# EAGLE library part ESP32_DEVKIT_V1 (library UNIT_Biblioteca_Modulos)
ESP32 Devkit V1 Datasheet: SKU: Propietario: UNIT Electronics Desarrollador: Alberto Villanueva
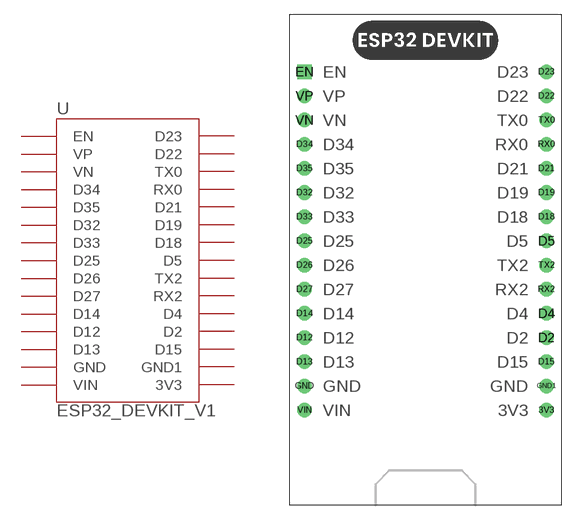
[diagram p33: symbol with the pads of DEVKIT_V1; footprint DEVKIT_V1]

Designator prefix U

## ESP32_DEVKIT_V1 (CLASS: Modules; DESCRIPTION: ESP32 DEVKIT V1; MANUFACTURER_NAME: ESP32 DEVKIT V1; VENDOR_PART_NUMBER: AR0453; VENDOR_PRICE-STOCK: https://uelectronics.com/producto/esp32-devkit-v1-30-pines-usb-c-microusb/)  [DEVKIT_V1]
3V3  3V3
D2  D2
D4  D4
D5  D5
D12  D12
D13  D13
D14  D14
D15  D15
D18  D18
D19  D19
D21  D21
D22  D22
D23  D23
D25  D25
D26  D26
D27  D27
D32  D32
D33  D33
D34  D34
D35  D35
EN  EN
GND  GND
GND1  GND1
RX0  RX0
RX2  RX2
TX0  TX0
TX2  TX2
VIN  VIN
VN  VN
VP  VP

## Footprint DEVKIT_V1 (pad centres in mm)
drill 1.02: 3V3 12.7,-17.78; D2 12.7,-10.16; D4 12.7,-7.62; D5 12.7,0; D12 -12.7,-10.16; D13 -12.7,-12.7; D14 -12.7,-7.62; D15 12.7,-12.7; D18 12.7,2.54; D19 12.7,5.08; D21 12.7,7.62; D22 12.7,15.24; D23 12.7,17.78; D25 -12.7,0; D26 -12.7,-2.54; D27 -12.7,-5.08; D32 -12.7,5.08; D33 -12.7,2.54; D34 -12.7,10.16; D35 -12.7,7.62; GND -12.7,-15.24; GND1 12.7,-15.24; RX0 12.7,10.16; RX2 12.7,-5.08; TX0 12.7,12.7; TX2 12.7,-2.54; VIN -12.7,-17.78; VN -12.7,12.7; VP -12.7,15.24
drill 1.02 square: EN -12.7,17.78